# EAGLE library part DRV8839 (library IntegerLabs)
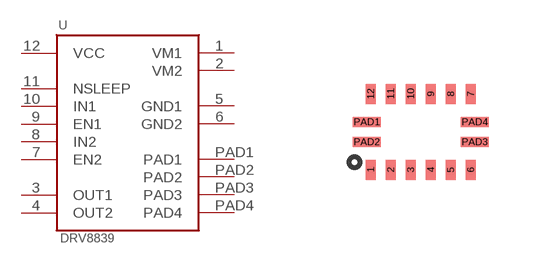
[diagram p11: symbol with the pads of WSON-POWERPAD-12; footprint WSON-POWERPAD-12]

Designator prefix -

## DRV8839  [WSON-POWERPAD-12]
1  VM1
2  VM2
3  OUT1
4  OUT2
5  GND1
6  GND2
7  EN2
8  IN2
9  EN1
10  IN1
11  NSLEEP
12  VCC
PAD1  PAD1
PAD2  PAD2
PAD3  PAD3
PAD4  PAD4

## Footprint WSON-POWERPAD-12 (pad centres in mm)
smd 0.25 x 0.5: 1 -1.25,-0.95; 2 -0.75,-0.95; 3 -0.25,-0.95; 4 0.25,-0.95; 5 0.75,-0.95; 6 1.25,-0.95; 7 1.25,0.95; 8 0.75,0.95; 9 0.25,0.95; 10 -0.25,0.95; 11 -0.75,0.95; 12 -1.25,0.95
smd 0.7 x 0.25: PAD1 -1.35,0.25; PAD2 -1.35,-0.25; PAD3 1.35,-0.25; PAD4 1.35,0.25